# EAGLE library part USBLC6-2P6 (library parts_library)
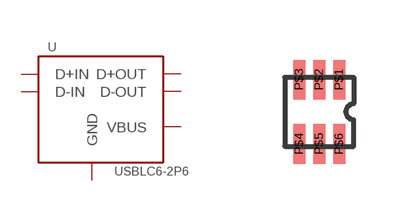
[diagram p0: symbol with the pads of SOT-666; footprint SOT-666]

Designator prefix -

## USBLC6-2P6  [SOT-666]
P$1  D+IN  in
P$2  GND  sup
P$3  D-IN  in
P$4  D-OUT  out
P$5  VBUS  pwr
P$6  D+OUT  out

## Footprint SOT-666 (pad centres in mm)
smd 0.3 x 0.991: P$1 0.5,0.805; P$2 0,0.805; P$3 -0.5,0.805; P$4 -0.5,-0.805; P$5 0,-0.805; P$6 0.5,-0.805